# Altium footprint library SparkFun-Passives.PCBLIB: 102 footprints (part 4 of 7)
Each footprint in its own frame and in the unit in brackets; x right, y up, seen from the top. Pads: shape width x height; smd on the part's side, far side on the other; paste and mask are expansions set on the pad; w line width, h text height; cw(c..) or ccw(c..) is an arc to the next point about the centre after c.
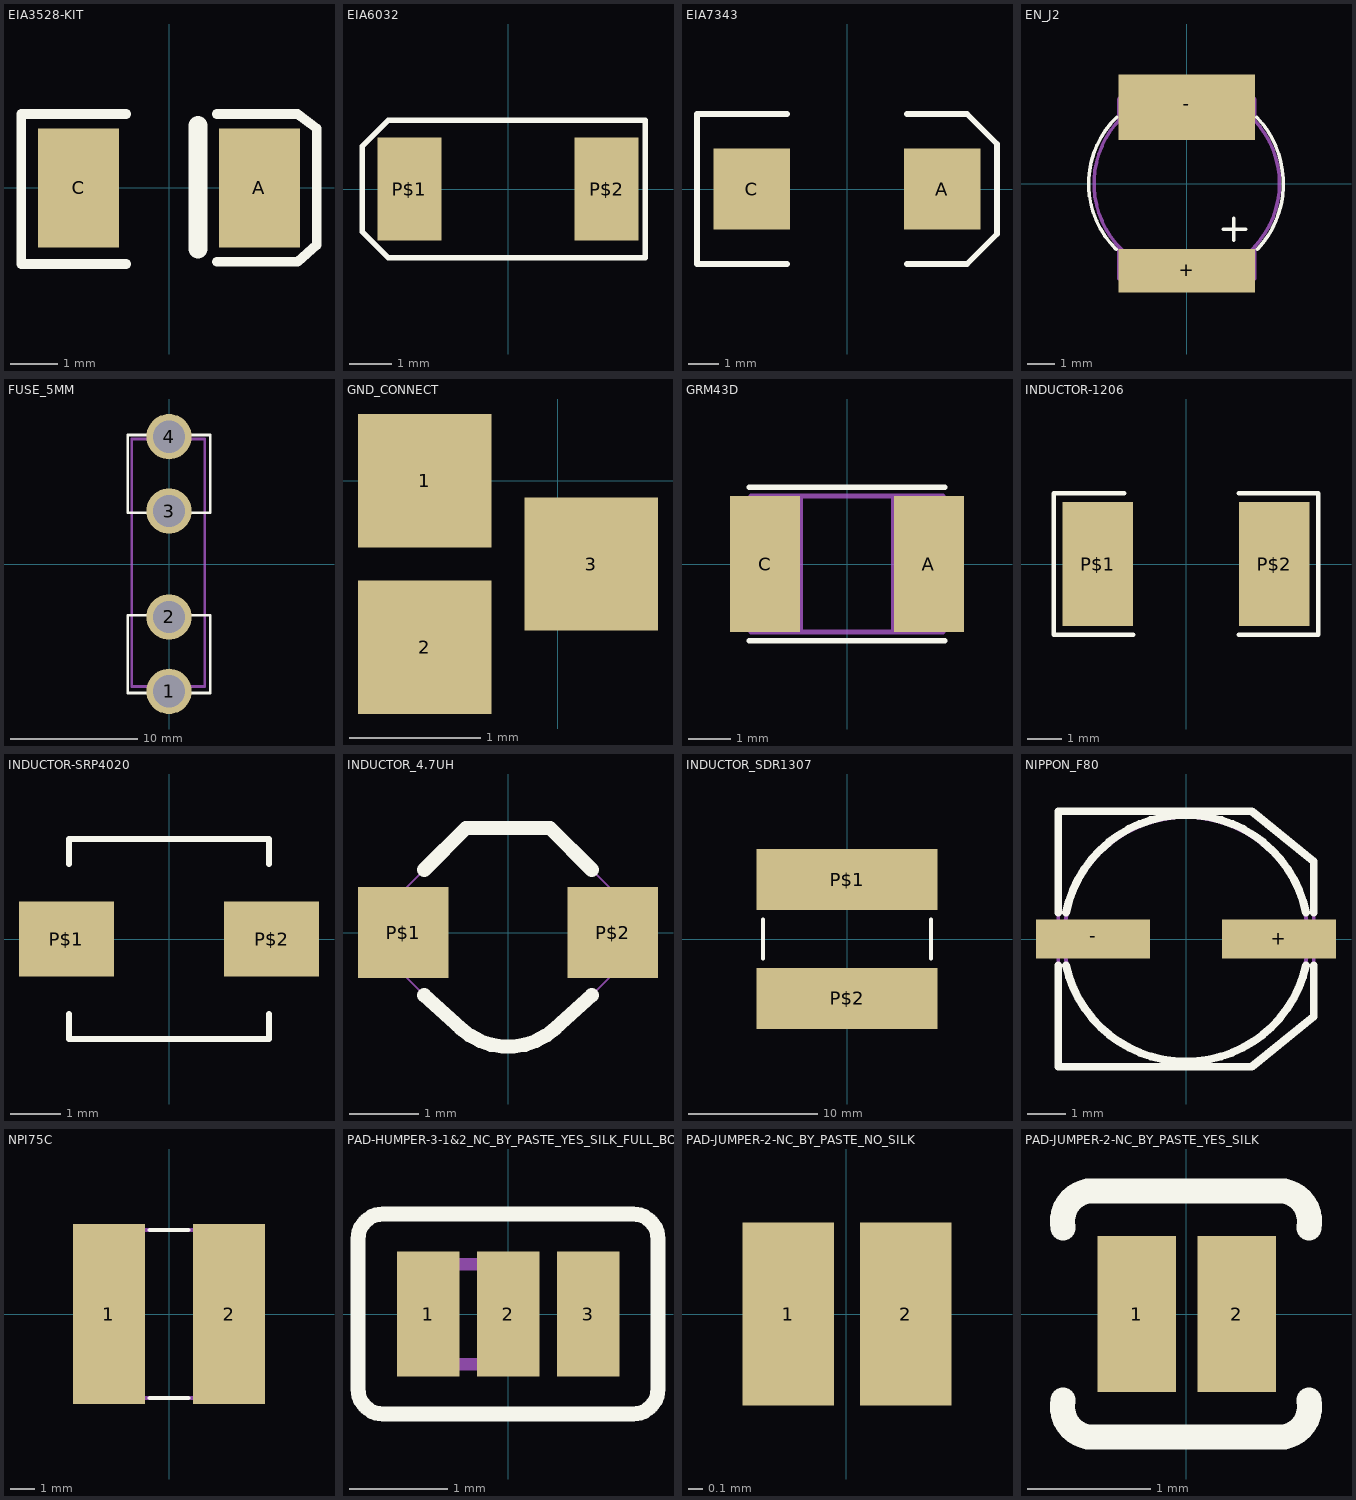
[diagram p3: the footprints below, top view; thin cyan lines are the x and y axes]

## EIA3528-KIT [mil]
pads (2):
  rect 66.93x98.43 smd: A(74.8,0) C(-74.8,0)
Top Overlay:
  lines w8: -35.43,-62.99 -122.05,-62.99 -122.05,61.02 -35.43,61.02 ; 39.37,-61.02 106.3,-61.02 122.05,-47.24 122.05,49.21 106.3,61.02 39.37,61.02
  lines w15.75: 23.98,-50.63 23.98,51.61

## EIA6032 [mil]
pads (2):
  rect 59.06x94.49 smd: P$1(-90.55,0) P$2(90.55,0)
Top Overlay:
  lines w5: -133.86,-39.37 -133.86,39.37 -110.24,62.99 125.98,62.99 125.98,-62.99 -110.24,-62.99 -133.86,-39.37

## EIA7343 [mil]
pads (2):
  rect 100.39x106.3 smd: A(124.8,0) C(-124.8,0)
Top Overlay:
  lines w8: -78.74,-98.43 -196.85,-98.43 -196.85,98.43 -78.74,98.43 ; 78.74,-98.43 157.48,-98.43 196.85,-59.06 196.85,59.06 157.48,98.43 78.74,98.43

## EN_J2 [mm]
pads (2):
  rect 5x1.6 smd: +(0,-3.2)
  rect 5x2.4 smd: -(0,2.8)
Top Overlay:
  lines w0.127: -2.591,-2.413 cw(c-0.203,0) -2.565,2.438 ; 1.346,-1.676 2.159,-1.676 ; 1.727,-2.083 1.727,-1.27 ; 2.565,2.438 cw(c0.013,-0.001) 2.591,-2.413
Mechanical 16:
  circle w0.127: c0,0 r3.4
  lines w0.127: -2.5,-2.3 -2.5,-3.5 2.5,-3.5 2.5,-2.3 ; -2.5,2.3 -2.5,3.1 -2.1,3.5 2.1,3.5 2.5,3.1 2.5,2.3

## FUSE_5MM [mil]
pads (4):
  round 140 hole 100: 1(0,-393.7) 2(0,-163.7) 3(0,163.7) 4(0,393.7)
Top Overlay:
  lines w8: -127,-161.7 -127,-398.7 127,-398.7 127,-158.7 -127,-158.7 ; 127,158.7 -127,158.7 -127,398.7 127,398.7 127,161.7
Mechanical 16:
  lines w8: -115,-378.7 -115,386.3 110,386.3 110,361.3 110,-378.7 10,-378.7 -115,-378.7

## GND_CONNECT [mil]
pads (3):
  rect 40x40 smd: 1(-40,0) 2(-40,-50) 3(10,-25)

## GRM43D [mm]
pads (2):
  rect 1.65x3.2 smd: A(1.927,0) C(-1.927,0)
Top Overlay:
  lines w0.127: -2.3,-1.8 2.3,-1.8 ; -2.3,1.8 2.3,1.8
Mechanical 16:
  rectangle: -2.2,-1.6 -1.1,1.6
  rectangle: 1.1,-1.6 2.2,1.6
  lines w0.127: -1.1,-1.6 -2.25,-1.6 -2.25,1.6 -1.1,1.6 ; -1.1,-1.6 1.1,-1.6 ; -1.1,-1.6 -1.1,1.6 ; -1.1,1.6 1.1,1.6 ; 1.1,-1.6 2.25,-1.6 2.25,1.6 1.1,1.6 ; 1.1,-1.6 1.1,1.6

## INDUCTOR-1206 [mil]
pads (2):
  rect 80x140 smd: P$1(-100,0) P$2(100,0)
Top Overlay:
  lines w5: -70,80 -150,80 -150,-80 -60,-80 ; 60,-80 150,-80 150,80 60,80

## INDUCTOR-SRP4020 [mil]
pads (2):
  rect 74.8x59.06 smd: P$1(-80.71,0) P$2(80.71,0)
Top Overlay:
  lines w5: -78.74,-59.06 -78.74,-78.74 78.74,-78.74 78.74,-59.06 ; -78.74,59.06 -78.74,78.74 78.74,78.74 78.74,59.06

## INDUCTOR_4.7UH [mil]
pads (2):
  rect 51.18x51.18 smd: P$1(-59.06,0) P$2(59.06,0)
Top Overlay:
  lines w8: -47.24,-35.43 -26.7,-54.09 ccw(c0,-25.17) 26.7,-54.09 47.24,-35.43 ; -47.24,35.43 -23.62,59.06 23.62,59.06 47.24,35.43
Mechanical 16:
  lines w1.18: -59.06,-23.62 -27.84,-54.84 ccw(c0,-27) 27.84,-54.84 59.06,-23.62 59.06,23.62 23.62,59.06 -23.62,59.06 -59.06,23.62 -59.06,-23.62

## INDUCTOR_SDR1307 [mil]
pads (2):
  rect 551.18x187.01 smd: P$1(0,181.1) P$2(0,-181.1)
Top Overlay:
  lines w12: -255.91,-59.06 -255.91,59.06 ; 255.91,-59.06 255.91,59.06

## NIPPON_F80 [mm]
pads (2):
  rect 2.95x1 smd: +(2.4,0) -(-2.4,0)
Top Overlay:
  lines w0.203: -3.3,-0.685 -3.3,-3.3 1.7,-3.3 3.3,-2 3.3,-0.685 ; -3.3,0.685 -3.3,3.3 1.7,3.3 3.3,2 3.3,0.685 ; -3.1,-0.685 ccw(c0,0.009) 3.1,-0.685 ; -3.1,0.685 cw(c0,0.04) 3.1,0.685
Mechanical 16:
  circle w0.102: c0,0 r3.15
  lines w0.102: -3.3,-3.3 1.7,-3.3 3.3,-2 3.3,2 1.7,3.3 -3.3,3.3 -3.3,-3.3

## NPI75C [mm]
pads (2):
  rect 3x7.5 smd: 1(-2.5,0) 2(2.5,0)
Top Overlay:
  lines w0.178: -0.8,-3.5 0.8,-3.5 ; -0.8,3.5 0.8,3.5
Mechanical 16:
  lines w0.178: -3.9,-3.5 -3.9,3.5 3.9,3.5 3.9,-3.5 -3.9,-3.5

## PAD-HUMPER-3-1&2_NC_BY_PASTE_YES_SILK_FULL_BOX [mil]
pads (3):
  rect 25x50 smd: 1(-32,0) 2(0,0) 3(32,0)
Top Overlay:
  lines w6: -60,-30 ccw(c-50,-30) -50,-40 50,-40 ccw(c50,-30) 60,-30 60,30 ccw(c50,30) 50,40 -50,40 ccw(c-50,30) -60,30 -60,-30
Top Paste:
  rectangle: -56,-40 11,39
Mechanical 16:
  lines w5: -40.5,-20 -40.5,20 7,20 7,-20 -40.5,-20
  text "PASTE" at -30.5,-17.5 h15.5

## PAD-JUMPER-2-NC_BY_PASTE_NO_SILK [mil]
pads (2):
  rect 25x50 smd: 1(-15.78,0) 2(16.25,0)
Top Paste:
  rectangle: -40,-40 40,40

## PAD-JUMPER-2-NC_BY_PASTE_YES_SILK [mil]
pads (2):
  rect 25x50 smd: 1(-15.78,0) 2(16.25,0)
Top Overlay:
  lines w8: -39.37,-27.56 ccw(c-29.53,-29.53) -31.5,-39.37 31.5,-39.37 ccw(c29.53,-29.53) 39.37,-27.56 ; -39.37,27.56 cw(c-29.53,29.53) -31.5,39.37 31.5,39.37 cw(c29.54,29.54) 39.37,27.56
Top Paste:
  rectangle: -48,-40 48,40